# Altium footprint library L8050QLT1G.PcbLib: 3 footprints
Each footprint in its own frame and in the unit in brackets; x right, y up, seen from the top. Pads: shape width x height; smd on the part's side, far side on the other; paste and mask are expansions set on the pad; w line width, h text height; cw(c..) or ccw(c..) is an arc to the next point about the centre after c.
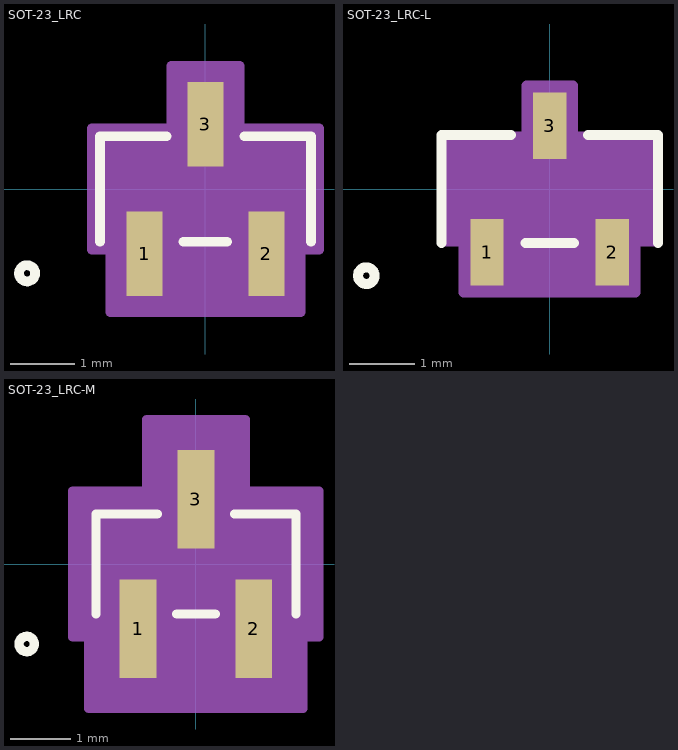
[diagram p0: the footprints below, top view; thin cyan lines are the x and y axes]

## SOT-23_LRC [mil]
pads (3):
  rect 22x52 smd paste+0 mask+0: 1(-37.6,-40) 2(37.6,-40) 3(0,40)
Top Overlay:
  circle w6: c-110,-52 r5
  lines w6: -65,-32.5 -65,32.5 -24.1,32.5 ; -13.5,-32.5 13.5,-32.5 ; 24.1,32.5 65,32.5 65,-32.5
Mechanical 13:
  circle w0: c-50,-17.5 r5
  lines w1: -60,-27.5 60,-27.5 60,27.5 -60,27.5 -60,-27.5 ; -47.6,-52 -47.6,-27.5 -27.6,-27.5 -27.6,-52 -47.6,-52 ; -10,27.5 10,27.5 10,52 -10,52 -10,27.5 ; 27.6,-52 27.6,-27.5 47.6,-27.5 47.6,-52 27.6,-52
Mechanical 15:
  region: -70,-37.5 -70,37.5 -21,37.5 -21,76 21,76 21,37.5 70,37.5 70,-37.5 58.6,-37.5 58.6,-76 -58.6,-76 -58.6,-37.5
  region: 60,-27.5 -60,-27.5 -60,27.5 60,27.5
  lines w6: -70,-37.5 -70,37.5 -21,37.5 -21,76 21,76 21,37.5 70,37.5 70,-37.5 58.6,-37.5 58.6,-76 -58.6,-76 -58.6,-37.5 -70,-37.5
3D body "SOT-23_LRC.step": height 44.09, standoff 0, extent -60,-52.01 60,52.01

## SOT-23_LRC-L [mil]
pads (3):
  rect 20x40 smd paste+0 mask+0: 1(-37.6,-38) 2(37.6,-38) 3(0,38)
Top Overlay:
  circle w6: c-110,-52 r5
  lines w6: -65,-32.5 -65,32.5 -23.1,32.5 ; -14.5,-32.5 14.5,-32.5 ; 23.1,32.5 65,32.5 65,-32.5
Mechanical 13:
  circle w0: c-50,-17.5 r5
  lines w1: -60,-27.5 60,-27.5 60,27.5 -60,27.5 -60,-27.5 ; -47.6,-52 -47.6,-27.5 -27.6,-27.5 -27.6,-52 -47.6,-52 ; -10,27.5 10,27.5 10,52 -10,52 -10,27.5 ; 27.6,-52 27.6,-27.5 47.6,-27.5 47.6,-52 27.6,-52
Mechanical 15:
  region: -64,-31.5 -64,31.5 -14,31.5 -14,62 14,62 14,31.5 64,31.5 64,-31.5 51.6,-31.5 51.6,-62 -51.6,-62 -51.6,-31.5
  region: 60,-27.5 -60,-27.5 -60,27.5 60,27.5
  lines w6: -64,-31.5 -64,31.5 -14,31.5 -14,62 14,62 14,31.5 64,31.5 64,-31.5 51.6,-31.5 51.6,-62 -51.6,-62 -51.6,-31.5 -64,-31.5
3D body "SOT-23_LRC.step": height 44.09, standoff 0, extent -60,-52.01 60,52.01

## SOT-23_LRC-M [mil]
pads (3):
  rect 24x64 smd paste+0 mask+0: 1(-37.6,-42) 2(37.6,-42) 3(0,42)
Top Overlay:
  circle w6: c-110,-52 r5
  lines w6: -65,-32.5 -65,32.5 -25.1,32.5 ; -12.5,-32.5 12.5,-32.5 ; 25.1,32.5 65,32.5 65,-32.5
Mechanical 13:
  circle w0: c-50,-17.5 r5
  lines w1: -60,-27.5 60,-27.5 60,27.5 -60,27.5 -60,-27.5 ; -47.6,-52 -47.6,-27.5 -27.6,-27.5 -27.6,-52 -47.6,-52 ; -10,27.5 10,27.5 10,52 -10,52 -10,27.5 ; 27.6,-52 27.6,-27.5 47.6,-27.5 47.6,-52 27.6,-52
Mechanical 15:
  region: -80,-47.5 -80,47.5 -32,47.5 -32,94 32,94 32,47.5 80,47.5 80,-47.5 69.6,-47.5 69.6,-94 -69.6,-94 -69.6,-47.5
  region: 60,-27.5 -60,-27.5 -60,27.5 60,27.5
  lines w6: -80,-47.5 -80,47.5 -32,47.5 -32,94 32,94 32,47.5 80,47.5 80,-47.5 69.6,-47.5 69.6,-94 -69.6,-94 -69.6,-47.5 -80,-47.5
3D body "SOT-23_LRC.step": height 44.09, standoff 0, extent -60,-52.01 60,52.01